# EAGLE library part DRV8871 (library MKRMotorCarrierV3.0)
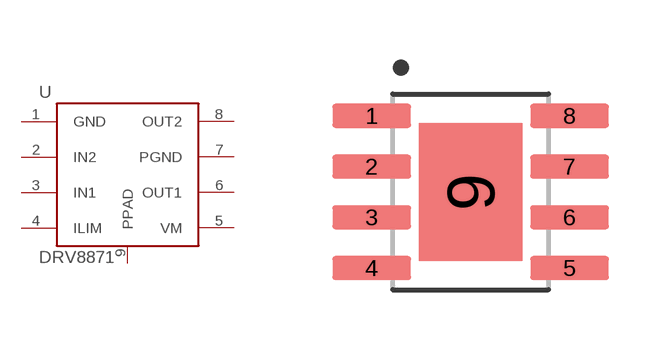
[diagram p3: symbol with the pads of SOIC127P600X170-8N; footprint SOIC127P600X170-8N]

Designator prefix U

## DRV8871 (DATASHEET: http://www.ti.com/lit/ds/symlink/drv8871.pdf; DESCRIPTION: Motor Driver 3.6A 6.5-45v; DISTRIBUTOR-LINK: https://www.digikey.se/products/en?keywords=296-43024-1-ND; DISTRIBUTOR-PN: 296-43024-1-ND; MANUFACTURER: Texas Instruments; MANUFACTURER-PN: DRV8871DDAR; VALUE: DRV8871)  [SOIC127P600X170-8N]
1  GND
2  IN2
3  IN1
4  ILIM
5  VM
6  OUT1
7  PGND
8  OUT2
9  PPAD

## Footprint SOIC127P600X170-8N (pad centres in mm)
smd 1.97 x 0.6: 1 -2.475,1.905; 2 -2.475,0.635; 3 -2.475,-0.635; 4 -2.475,-1.905; 5 2.475,-1.905; 6 2.475,-0.635; 7 2.475,0.635; 8 2.475,1.905
smd 2.58 x 3.45: 9 0,0